# Altium schematic symbol library SMD-3225_4P_12.288MHZ_12PF_10P.SchLib: 1 symbol
Pins are listed as number, name and electrical type; pins without a type are passive.

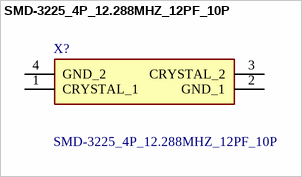
[diagram p0: symbol SMD-3225_4P_12.288MHZ_12PF_10P]

## SMD-3225_4P_12.288MHZ_12PF_10P
designator X?
SMD Crystal Resonators 12.288MHz +/-10ppm SMD-3225_4P RoHS; Manufacturer_Name: TAE(Zhejiang Abel Elec); Manufacturer_Part_Number: SMD-3225_4P 12.288MHZ 12PF 10PPM -40~+85¡æ; Geometry.Height: 0.8mm; Mouser Part Number: *; Mouser Price/Stock: *; Arrow Part Number: *; Arrow Price/Stock: *; Datasheet Link: https://datasheet.lcsc.com/szlcsc/1901241506_Zhejiang-Abel-Elec-SMD-3225-4P-12-288MHZ-12PF-10PPM-40-85_C362472.pdf
footprint SMD3225_4P12288MHZ12PF10PPM4085
pins: 1 CRYSTAL_1, 2 GND_1, 3 CRYSTAL_2, 4 GND_2